# Altium footprint library Daxxn_Standoffs.PcbLib: 6 footprints
Each footprint in its own frame and in the unit in brackets; x right, y up, seen from the top. Pads: shape width x height; smd on the part's side, far side on the other; paste and mask are expansions set on the pad; w line width, h text height; cw(c..) or ccw(c..) is an arc to the next point about the centre after c.
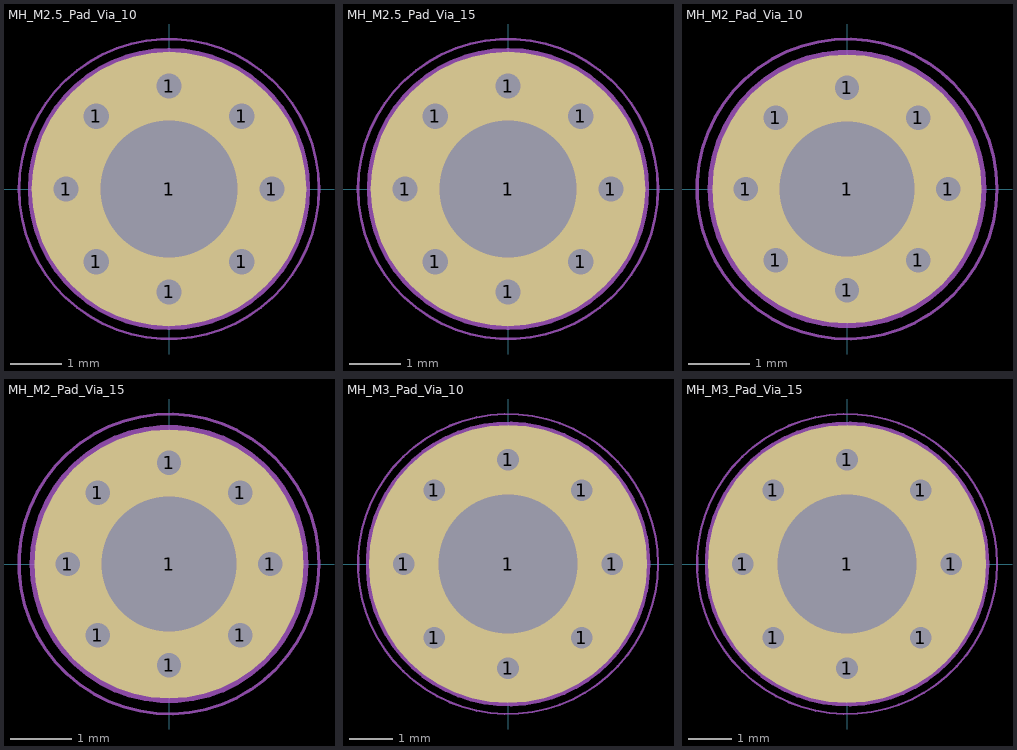
[diagram p0: the footprints below, top view; thin cyan lines are the x and y axes]

## MH_M2.5_Pad_Via_10 [mm]
pads (9):
  round 0.8 hole 0.5: 1(-2.025,0) 1(-1.432,-1.432) 1(-1.432,1.432) 1(0,-2.025) 1(0,2.025) 1(1.432,-1.432) 1(1.432,1.432) 1(2.025,0)
  round 5.4 hole 2.7: 1(0,0)
F.CrtYd:
  circle w0.05: c0,0 r2.95
F.Fab:
  text "'.Designator'" at -4.047,-0.84 h1
Cmts.User:
  circle w0.15: c0,0 r2.7

## MH_M2.5_Pad_Via_15 [mm]
pads (9):
  round 0.8 hole 0.5: 1(-2.025,0) 1(-1.432,-1.432) 1(-1.432,1.432) 1(0,-2.025) 1(0,2.025) 1(1.432,-1.432) 1(1.432,1.432) 1(2.025,0)
  round 5.4 hole 2.7: 1(0,0)
F.CrtYd:
  circle w0.05: c0,0 r2.95
F.Fab:
  text "'.Designator'" at -4.047,-0.84 h1
Cmts.User:
  circle w0.15: c0,0 r2.7

## MH_M2_Pad_Via_10 [mm]
pads (9):
  round 0.7 hole 0.4: 1(-1.65,0) 1(-1.167,-1.167) 1(-1.167,1.167) 1(0,-1.65) 1(0,1.65) 1(1.167,-1.167) 1(1.167,1.167) 1(1.65,0)
  round 4.4 hole 2.2: 1(0,0)
F.CrtYd:
  circle w0.05: c0,0 r2.45
F.Fab:
  text "'.Designator'" at -4.047,-0.84 h1
Cmts.User:
  circle w0.15: c0,0 r2.2

## MH_M2_Pad_Via_15 [mm]
pads (9):
  round 0.7 hole 0.4: 1(-1.65,0) 1(-1.167,-1.167) 1(-1.167,1.167) 1(0,-1.65) 1(0,1.65) 1(1.167,-1.167) 1(1.167,1.167) 1(1.65,0)
  round 4.4 hole 2.2: 1(0,0)
F.CrtYd:
  circle w0.05: c0,0 r2.45
F.Fab:
  text "'.Designator'" at -4.047,-0.84 h1
Cmts.User:
  circle w0.15: c0,0 r2.2

## MH_M3_Pad_Via_10 [mm]
pads (9):
  round 0.8 hole 0.5: 1(-2.4,0) 1(-1.697,-1.697) 1(-1.697,1.697) 1(0,-2.4) 1(0,2.4) 1(1.697,-1.697) 1(1.697,1.697) 1(2.4,0)
  round 6.4 hole 3.2: 1(0,0)
F.CrtYd:
  circle w0.05: c0,0 r3.45
F.Fab:
  text "'.Designator'" at -4.047,-0.84 h1
Cmts.User:
  circle w0.15: c0,0 r3.2

## MH_M3_Pad_Via_15 [mm]
pads (9):
  round 0.8 hole 0.5: 1(-2.4,0) 1(-1.697,-1.697) 1(-1.697,1.697) 1(0,-2.4) 1(0,2.4) 1(1.697,-1.697) 1(1.697,1.697) 1(2.4,0)
  round 6.4 hole 3.2: 1(0,0)
F.CrtYd:
  circle w0.05: c0,0 r3.45
F.Fab:
  text "'.Designator'" at -4.047,-0.84 h1
Cmts.User:
  circle w0.15: c0,0 r3.2